# Altium footprint library usbb_pcb.PcbLib: 1 footprints
Each footprint in its own frame and in the unit in brackets; x right, y up, seen from the top. Pads: shape width x height; smd on the part's side, far side on the other; paste and mask are expansions set on the pad; w line width, h text height; cw(c..) or ccw(c..) is an arc to the next point about the centre after c.
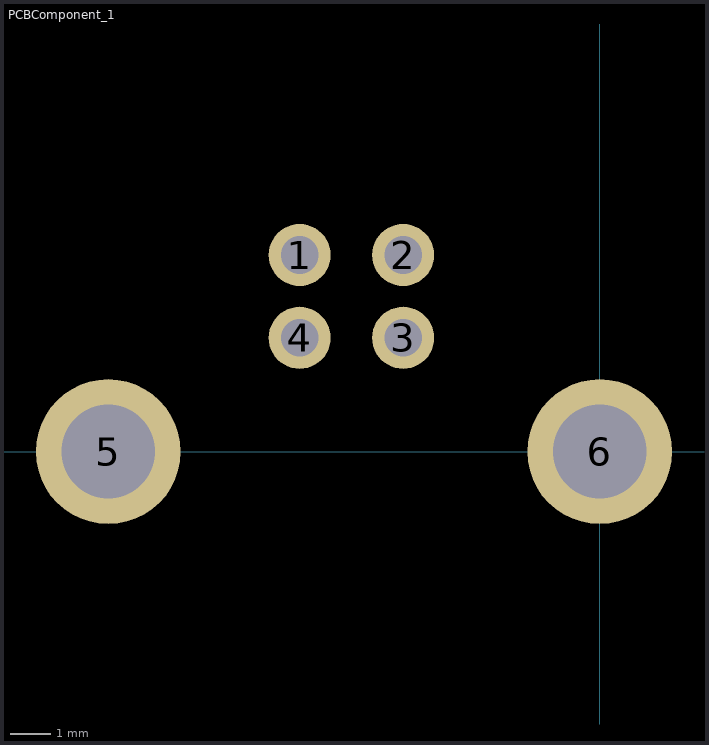
[diagram p0: the footprint, top view; thin cyan lines are the x and y axes]

## PCBComponent_1 [mil]
pads (6):
  round 60 / inner round 0 / far side round 60 hole 36.3: 1(-290,190) 2(-190,190) 3(-190,110) 4(-290,110)
  round 140 / inner round 0 / far side round 0 hole 90.6 paste+0: 5(-475,0)
  round 140 / inner round 0 / far side round 0 hole 90.6: 6(0,0)